# EAGLE library part INA250A2PW (library My_TI)
36-V, Low- or High-Side, Bidirectional, Zero-Drift Current-Shunt Monitor with Precision Integrated Shunt Resistor
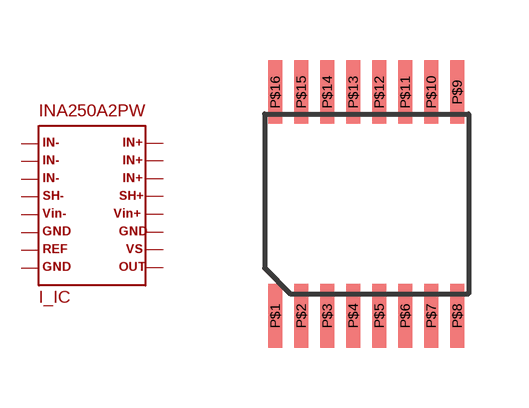
[diagram p15: symbol with the pads of SSOP16; footprint SSOP16]

Designator prefix I_IC

## INA250A2PW  [SSOP16]
P$1  P$1
P$2  P$2
P$3  P$3
P$4  P$4
P$5  P$5
P$6  P$6
P$7  P$7
P$8  P$8
P$9  P$9
P$10  P$10
P$11  P$11
P$12  P$12
P$13  P$13
P$14  P$14
P$15  P$15
P$16  P$16

## Footprint SSOP16 (pad centres in mm)
smd 0.35 x 1.6: P$1 -2.3,-2.9; P$2 -1.65,-2.9; P$3 -1,-2.9; P$4 -0.35,-2.9; P$5 0.3,-2.9; P$6 0.95,-2.9; P$7 1.6,-2.9; P$8 2.25,-2.9; P$9 2.25,2.7; P$10 1.6,2.7; P$11 0.95,2.7; P$12 0.3,2.7; P$13 -0.35,2.7; P$14 -1,2.7; P$15 -1.65,2.7; P$16 -2.3,2.7